# Altium schematic symbol library SN74LV139APWR.SchLib: 1 symbol
Pins are listed as number, name and electrical type; pins without a type are passive.

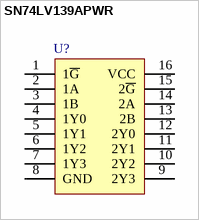
[diagram p0: symbol SN74LV139APWR]

## SN74LV139APWR
designator U?, comment OK  (value not drawn)
Dual, Decoder, Demultiplexer, 1-of-4, Inverting, 2 -5.5 V
pins: 1 1~{G}, 2 1A, 3 1B, 4 1Y0, 5 1Y1, 6 1Y2, 7 1Y3, 8 GND, 9 2Y3, 10 2Y2, 11 2Y1, 12 2Y0, 13 2B, 14 2A, 15 2~{G}, 16 VCC